# Altium schematic symbol library Fuse.SchLib: 1 symbol
Pins are listed as number, name and electrical type; pins without a type are passive.

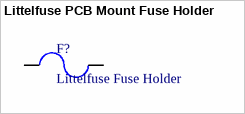
[diagram p0: symbol Littelfuse PCB Mount Fuse Holder]

## Littelfuse PCB Mount Fuse Holder
designator F?, comment Littelfuse Fuse Holder
Fuse holder for MINI/ FK1 fuses for PCB applications. The FL1 Fuse Holder can be mounted in a row of nearly any number. The terminals fit into a 7.62 mm pitch.; ComponentLink1Description: Datasheet; ComponentLink1URL: https://www.littelfuse.com/~/media/commercial-vehicle/datasheets/automotive-fuse-holders/mini/littelfuse-fuseholder-mini-fl1-pcb-mount.pdf
footprint Littelfuse PCB Mount Fuse Holder (https://www.littelfuse.com/~/media/commercial-vehicle/datasheets/automotive-fuse-holders/mini/littelfuse-fuseholder-mini-fl1-pcb-mount.pdf)
pins: 1, 1